# EAGLE library part M12A-08PMMR-SF7003 (library M12A-08PMMR-SF7003)
Sensor Cables / Actuator Cables PANEL SCREW 8 PIN M CONN M PIN Source: Datasheet <https://www.digikey.com/htmldatasheets/production/3171852/0/0/1/m12a-08pmmr-sf7003.pdf>
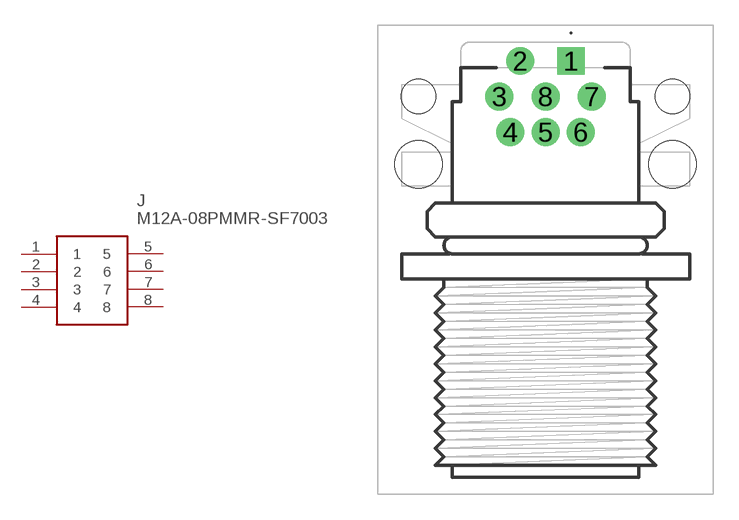
[diagram p0: symbol with the pads of M12A08PMMRSF7003; footprint M12A08PMMRSF7003]

Designator prefix J

## M12A-08PMMR-SF7003 (Arrow_Part_Number: M12A-08PMMR-SF7003; Arrow_Price-Stock: https://www.arrow.com/en/products/m12a-08pmmr-sf7003/amphenol?region=europe; Description: Sensor Cables / Actuator Cables PANEL SCREW 8 PIN M CONN M PIN; Height: 16.25mm; Manufacturer_Name: Amphenol; Manufacturer_Part_Number: M12A-08PMMR-SF7003; Mouser_Part_Number: 523-M12A08PMMRSF7003; Mouser_Price-Stock: https://www.mouser.com/Search/Refine.aspx?Keyword=523-M12A08PMMRSF7003)  [M12A08PMMRSF7003]
1  1
2  2
3  3
4  4
5  5
6  6
7  7
8  8

## Footprint M12A08PMMRSF7003 (pad centres in mm)
M12A-08PMMR-SF7003-1
drill 1.1 pad 1.65 square: 1 0,0
drill 1.1 pad 1.65: 2 -3,0; 3 -4.225,-2.1; 4 -3.575,-4.2; 5 -1.5,-4.2; 6 0.575,-4.2; 7 1.225,-2.1; 8 -1.5,-2.1
hole 2.05 at -9,-2.1
hole 2.05 at 6,-2.1
hole 2.8 at -9,-6.1
hole 2.8 at 6,-6.1